# Altium schematic symbol library display 1202.SchLib: 1 symbol
Pins are listed as number, name and electrical type; pins without a type are passive.

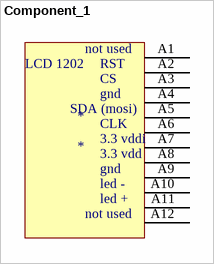
[diagram p0: symbol Component_1]

## Component_1
designator *
footprint LCD
pins: A1, A2, A3, A4, A5, A6, A7, A8, A9, A10, A11, A12
text: not used; LCD 1202; RST; CS; gnd; SDA (mosi); CLK; 3.3 vddi; 3.3 vdd; led -; led +